# Altium footprint library CONECTER.PcbLib: 145 footprints (part 3 of 10)
Each footprint in its own frame and in the unit in brackets; x right, y up, seen from the top. Pads: shape width x height; smd on the part's side, far side on the other; paste and mask are expansions set on the pad; w line width, h text height; cw(c..) or ccw(c..) is an arc to the next point about the centre after c.
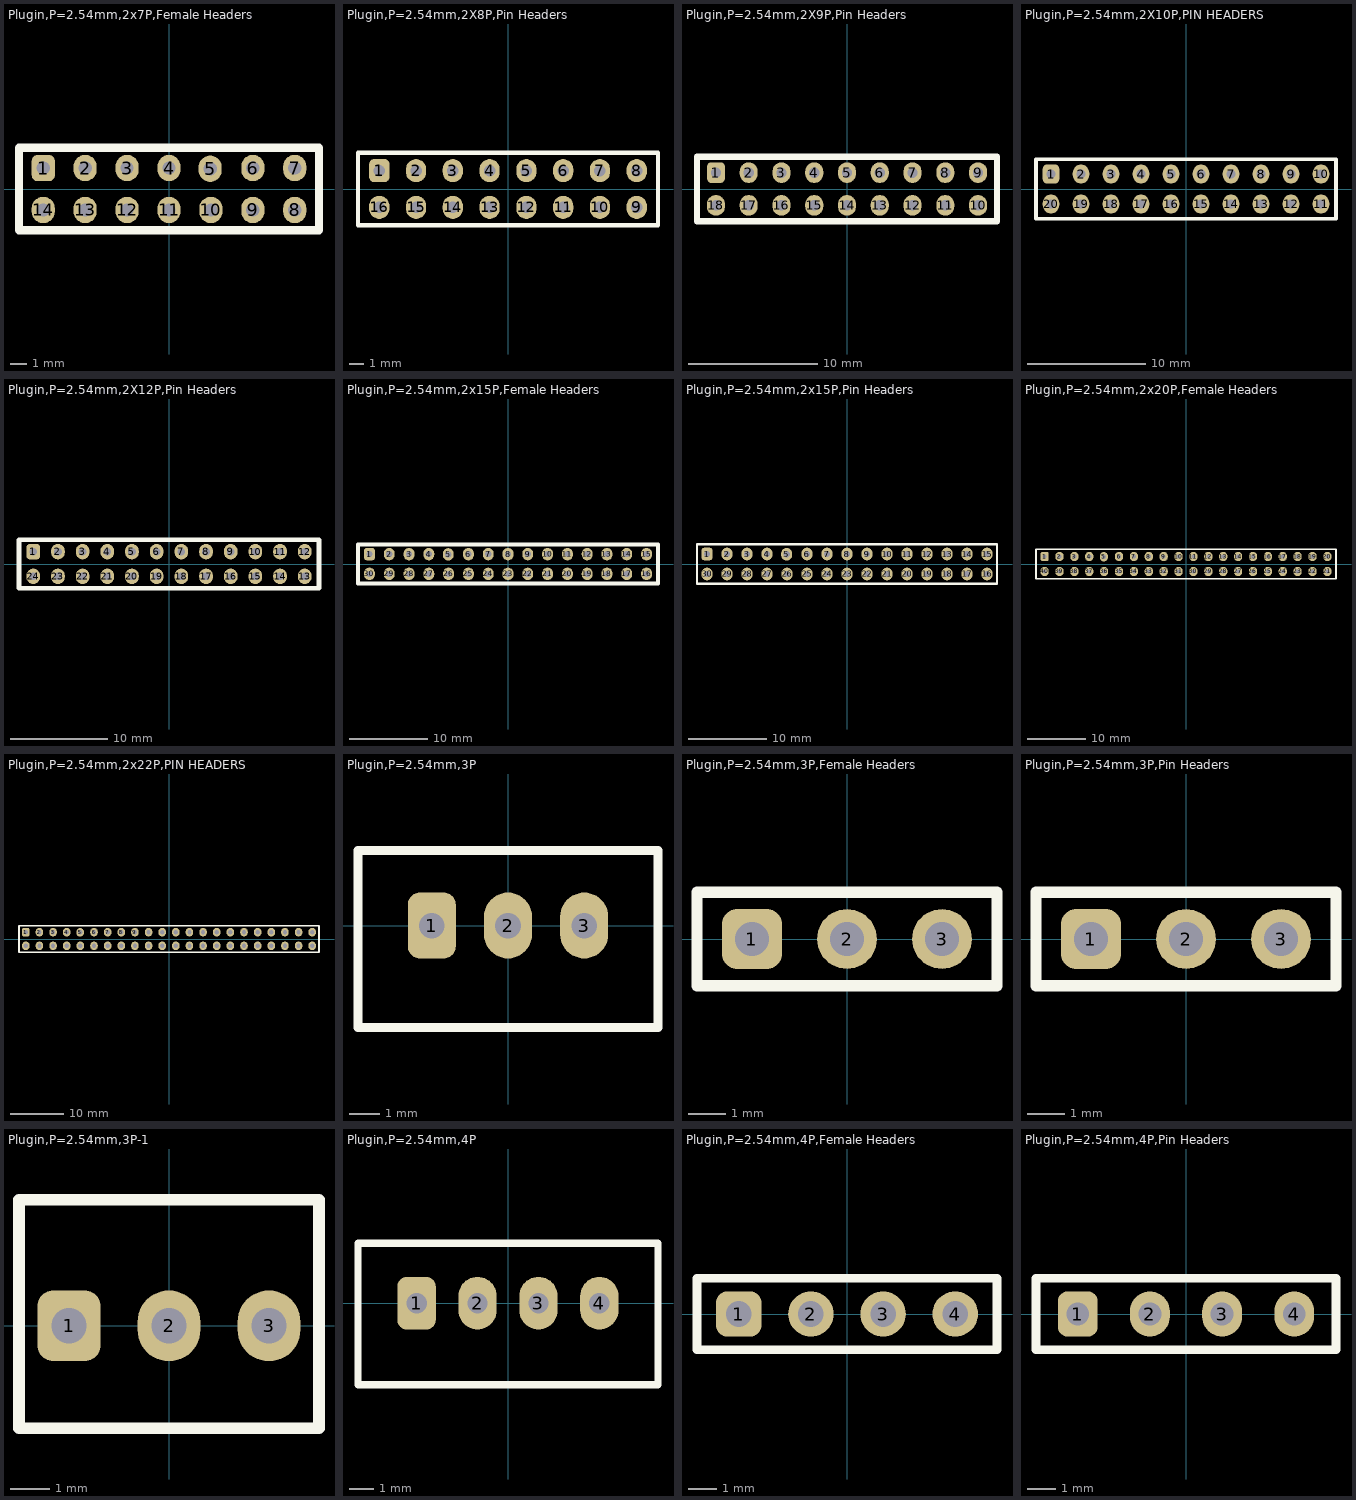
[diagram p2: the footprints below, top view; thin cyan lines are the x and y axes]

## Plugin,P=2.54mm,2x7P,Female Headers [mm]
pads (14):
  rrect50% 1.4x1.6 hole 0.8 mask+0.15: 1(-7.62,1.27)
  oval 1.4x1.6 hole 0.8 mask+0.15: 2(-5.08,1.27) 3(-2.54,1.27) 4(0,1.27) 5(2.494,1.231) 6(5.08,1.27) 7(7.62,1.27) 8(7.62,-1.27) 9(5.08,-1.27) 10(2.54,-1.27) 11(0,-1.27) 12(-2.54,-1.27) 13(-5.08,-1.27) 14(-7.62,-1.27)
Top Overlay:
  lines w0.5: -9.09,-2.5 -9.09,2.5 9.09,2.5 9.09,-2.5 -9.09,-2.5
3D body "14-Pin Header - Female - Double - 2.54mm.step": height 8.5, standoff -3, extent -9.14,-2.5 9.14,2.5

## Plugin,P=2.54mm,2X8P,Pin Headers [mm]
pads (16):
  rrect50% 1.4x1.6 hole 0.8 mask+0.15: 1(-8.89,1.27)
  oval 1.4x1.6 hole 0.8 mask+0.15: 2(-6.35,1.27) 3(-3.81,1.27) 4(-1.27,1.27) 5(1.27,1.27) 6(3.81,1.27) 7(6.35,1.27) 8(8.89,1.27) 9(8.89,-1.27) 10(6.35,-1.27) 11(3.81,-1.27) 12(1.27,-1.27) 13(-1.27,-1.27) 14(-3.81,-1.27) 15(-6.35,-1.27) 16(-8.89,-1.27)
Top Overlay:
  lines w0.3: -10.36,-2.5 10.36,-2.5 10.36,2.5 -10.36,2.5 -10.36,-2.5
3D body "Plugin,P=2.54mm,2X8P,Pin Headers.step": height 8.89, standoff -3.05, extent -10.16,-2.58 10.16,2.5

## Plugin,P=2.54mm,2X9P,Pin Headers [mm]
pads (18):
  rrect50% 1.4x1.6 hole 0.8 mask+0.15: 1(-10.16,1.27)
  oval 1.4x1.6 hole 0.8 mask+0.15: 2(-7.62,1.27) 3(-5.08,1.27) 4(-2.54,1.27) 5(0,1.27) 6(2.54,1.27) 7(5.08,1.27) 8(7.62,1.27) 9(10.16,1.27) 10(10.16,-1.27) 11(7.62,-1.27) 12(5.08,-1.27) 13(2.54,-1.27) 14(0,-1.27) 15(-2.54,-1.27) 16(-5.08,-1.27) 17(-7.62,-1.27) 18(-10.16,-1.27)
Top Overlay:
  lines w0.5: -11.63,-2.5 11.63,-2.5 11.63,2.5 -11.63,2.5 -11.63,-2.5
3D body "PH2.54-2x9P.stp": height 8.89, standoff -3.05, extent -11.43,-2.54 11.43,2.54

## Plugin,P=2.54mm,2X10P,PIN HEADERS [mm]
pads (20):
  rrect50% 1.4x1.6 hole 0.8 mask+0.15: 1(-11.43,1.27)
  oval 1.4x1.6 hole 0.8 mask+0.15: 2(-8.89,1.27) 3(-6.35,1.27) 4(-3.81,1.27) 5(-1.27,1.27) 6(1.27,1.27) 7(3.81,1.27) 8(6.35,1.27) 9(8.89,1.27) 10(11.43,1.27) 11(11.43,-1.27) 12(8.89,-1.27) 13(6.35,-1.27) 14(3.81,-1.27) 15(1.27,-1.27) 16(-1.27,-1.27) 17(-3.81,-1.27) 18(-6.35,-1.27) 19(-8.89,-1.27) 20(-11.43,-1.27)
Top Overlay:
  lines w0.3: -12.7,-2.5 12.7,-2.5 12.7,2.5 -12.7,2.5 -12.7,-2.5
3D body "PLD20.stp": height 8.54, standoff -3, extent -12.7,-2.54 12.7,2.54

## Plugin,P=2.54mm,2X12P,Pin Headers [mm]
pads (24):
  rrect50% 1.4x1.6 hole 0.8 mask+0.15: 1(-13.97,1.27)
  oval 1.4x1.6 hole 0.8 mask+0.15: 2(-11.43,1.27) 3(-8.89,1.27) 4(-6.35,1.27) 5(-3.81,1.27) 6(-1.27,1.27) 7(1.27,1.27) 8(3.81,1.27) 9(6.35,1.27) 10(8.89,1.27) 11(11.43,1.27) 12(13.97,1.27) 13(13.97,-1.27) 14(11.43,-1.27) 15(8.89,-1.27) 16(6.35,-1.27) 17(3.81,-1.27) 18(1.27,-1.27) 19(-1.27,-1.27) 20(-3.81,-1.27) 21(-6.35,-1.27) 22(-8.89,-1.27) 23(-11.43,-1.27) 24(-13.97,-1.27)
Top Overlay:
  lines w0.5: -15.44,-2.5 15.44,-2.5 15.44,2.5 -15.44,2.5 -15.44,-2.5
3D body "PH2.54-2x12P.stp": height 8.89, standoff -3.05, extent -15.24,-2.54 15.24,2.54

## Plugin,P=2.54mm,2x15P,Female Headers [mm]
pads (30):
  rrect50% 1.4x1.6 hole 0.8 mask+0.15: 1(-17.78,1.27)
  oval 1.4x1.6 hole 0.8 mask+0.15: 2(-15.24,1.27) 3(-12.7,1.27) 4(-10.16,1.27) 5(-7.666,1.231) 6(-5.08,1.27) 7(-2.54,1.27) 8(0,1.27) 9(2.54,1.27) 10(5.08,1.27) 11(7.62,1.27) 12(10.16,1.27) 13(12.7,1.27) 14(15.24,1.27) 15(17.78,1.27) 16(17.78,-1.27) 17(15.24,-1.27) 18(12.7,-1.27) 19(10.16,-1.27) 20(7.62,-1.27) 21(5.08,-1.27) 22(2.54,-1.27) 23(0,-1.27) 24(-2.54,-1.27) 25(-5.08,-1.27) 26(-7.62,-1.27) 27(-10.16,-1.27) 28(-12.7,-1.27) 29(-15.24,-1.27) 30(-17.78,-1.27)
Top Overlay:
  lines w0.5: -19.25,-2.5 -19.25,2.5 19.25,2.5 19.25,-2.5 -19.25,-2.5
3D body "30-Pin Header - Female - Double - 2.54mm.step": height 8.5, standoff -3, extent -19.3,-2.5 19.3,2.5

## Plugin,P=2.54mm,2x15P,Pin Headers [mm]
pads (30):
  rrect50% 1.4x1.6 hole 0.8 mask+0.15: 1(-17.78,1.27)
  oval 1.4x1.6 hole 0.8 mask+0.15: 2(-15.24,1.27) 3(-12.7,1.27) 4(-10.16,1.27) 5(-7.666,1.231) 6(-5.08,1.27) 7(-2.54,1.27) 8(0,1.27) 9(2.54,1.27) 10(5.08,1.27) 11(7.62,1.27) 12(10.16,1.27) 13(12.7,1.27) 14(15.24,1.27) 15(17.78,1.27) 16(17.78,-1.27) 17(15.24,-1.27) 18(12.7,-1.27) 19(10.16,-1.27) 20(7.62,-1.27) 21(5.08,-1.27) 22(2.54,-1.27) 23(0,-1.27) 24(-2.54,-1.27) 25(-5.08,-1.27) 26(-7.62,-1.27) 27(-10.16,-1.27) 28(-12.7,-1.27) 29(-15.24,-1.27) 30(-17.78,-1.27)
Top Overlay:
  lines w0.3: -19.05,-2.5 -19.05,2.5 19.05,2.5 19.05,-2.5 -19.05,-2.5
3D body "zl202-30_p2-54_l38-1_w5-08_h8-9.stp": height 8.89, standoff -3.05, extent -19.05,-2.54 19.05,2.54

## Plugin,P=2.54mm,2x20P,Female Headers [mm]
pads (40):
  rrect50% 1.4x1.6 hole 0.7 mask+0.15: 1(-24.13,1.27)
  oval 1.4x1.6 hole 0.7 mask+0.15: 2(-21.59,1.27) 3(-19.05,1.27) 4(-16.51,1.27) 5(-14.016,1.231) 6(-11.43,1.27) 7(-8.89,1.27) 8(-6.35,1.27) 9(-3.81,1.27) 10(-1.27,1.27) 11(1.27,1.27) 12(3.81,1.27) 13(6.35,1.27) 14(8.89,1.27) 15(11.43,1.27) 16(13.97,1.27) 17(16.51,1.27) 18(19.05,1.27) 19(21.59,1.27) 20(24.13,1.27) 21(24.13,-1.27) 22(21.59,-1.27) 23(19.05,-1.27) 24(16.51,-1.27) 25(13.97,-1.27) 26(11.43,-1.27) 27(8.89,-1.27) 28(6.35,-1.27) 29(3.81,-1.27) 30(1.27,-1.27) 31(-1.27,-1.27) 32(-3.81,-1.27) 33(-6.35,-1.27) 34(-8.89,-1.27) 35(-11.43,-1.27) 36(-13.97,-1.27) 37(-16.51,-1.27) 38(-19.05,-1.27) 39(-21.59,-1.27) 40(-24.13,-1.27)
Top Overlay:
  lines w0.3: -25.6,-2.5 25.6,-2.5 25.6,2.5 -25.6,2.5 -25.6,-2.5
3D body "40-Pin Header - Female - Double - 2.54mm.step": height 8.5, standoff -3, extent -25.65,-2.5 25.65,2.5

## Plugin,P=2.54mm,2x22P,PIN HEADERS [mm]
pads (44):
  rrect50% 1.4x1.6 hole 0.8 mask+0.15: 1(-26.67,1.27)
  oval 1.4x1.6 hole 0.8 mask+0.15: 2(-24.13,1.27) 3(-21.59,1.27) 4(-19.05,1.27) 5(-16.556,1.231) 6(-13.97,1.27) 7(-11.43,1.27) 8(-8.89,1.27) 9(-6.35,1.27) 10(-3.81,1.27) 11(-1.27,1.27) 12(1.27,1.27) 13(3.81,1.27) 14(6.35,1.27) 15(8.89,1.27) 16(11.43,1.27) 17(13.97,1.27) 18(16.51,1.27) 19(19.05,1.27) 20(21.59,1.27) 21(24.13,1.27) 22(26.67,1.27) 23(26.67,-1.27) 24(24.13,-1.27) 25(21.59,-1.27) 26(19.05,-1.27) 27(16.51,-1.27) 28(13.97,-1.27) 29(11.43,-1.27) 30(8.89,-1.27) 31(6.35,-1.27) 32(3.81,-1.27) 33(1.27,-1.27) 34(-1.27,-1.27) 35(-3.81,-1.27) 36(-6.35,-1.27) 37(-8.89,-1.27) 38(-11.43,-1.27) 39(-13.97,-1.27) 40(-16.51,-1.27) 41(-19.05,-1.27) 42(-21.59,-1.27) 43(-24.13,-1.27) 44(-26.67,-1.27)
Top Overlay:
  lines w0.3: -27.94,-2.5 -27.94,2.5 27.94,2.5 27.94,-2.5 -27.94,-2.5
3D body "PLD22.stp": height 8.54, standoff -3, extent -27.94,-2.54 0,2.54
3D body "PLD22.stp": height 8.54, standoff -3, extent 0,-2.54 27.94,2.54

## Plugin,P=2.54mm,3P [mm]
pads (3):
  rrect50% 1.6x2.2 hole 0.85 mask+0.1: 1(-2.54,0)
  oval 1.6x2.2 hole 0.85 mask+0.1: 2(0,0) 3(2.54,0)
Top Overlay:
  lines w0.3: -5,-3.4 -5,2.5 5,2.5 5,-3.4 -5,-3.4
3D body "JST 2.54X3P.step": height 7, standoff -3, extent -5.04,-3.3 5.04,2.4

## Plugin,P=2.54mm,3P,Female Headers [mm]
pads (3):
  rrect50% 1.6x1.6 hole 0.9: 1(-2.54,0)
  round 1.6 hole 0.9: 2(0,0) 3(2.54,0)
Top Overlay:
  lines w0.3: -4.01,-1.25 4.01,-1.25 4.01,1.25 -4.01,1.25 -4.01,-1.25
3D body "FH01-03SS.stp": height 8.5, standoff -3.2, extent -3.81,-1.25 3.81,1.25

## Plugin,P=2.54mm,3P,Pin Headers [mm]
pads (3):
  rrect50% 1.6x1.6 hole 0.9: 1(-2.54,0)
  round 1.6 hole 0.9: 2(0,0) 3(2.54,0)
Top Overlay:
  lines w0.3: -4.01,-1.25 4.01,-1.25 4.01,1.25 -4.01,1.25 -4.01,-1.25
3D body "Pin Header  2.54-03.stp": height 9.53, standoff -3.97, extent -3.81,-1.29 3.81,1.25

## Plugin,P=2.54mm,3P-1 [mm]
pads (3):
  rrect50% 1.6x1.8 hole 0.9: 1(-2.54,0)
  oval 1.6x1.8 hole 0.9: 2(0,0) 3(2.54,0)
Top Overlay:
  lines w0.3: -3.81,-2.6 -3.81,3.2 3.81,3.2 3.81,-2.6 -3.81,-2.6
3D body "640456-3.STEP": height 10.03, standoff -3.94, extent -3.953,-2.54 3.667,3.175

## Plugin,P=2.54mm,4P [mm]
pads (4):
  rrect50% 1.6x2.2 hole 0.85 mask+0.1: 1(-3.81,0)
  oval 1.6x2.2 hole 0.85 mask+0.1: 2(-1.27,0) 3(1.27,0) 4(3.81,0)
Top Overlay:
  lines w0.3: -6.25,-3.4 6.25,-3.4 6.25,2.5 -6.25,2.5 -6.25,-3.4
3D body "User Library-XH2_54-4P_step.STEP": height 7, standoff -1.8, extent -6.25,-3.4 6.25,2.4

## Plugin,P=2.54mm,4P,Female Headers [mm]
pads (4):
  rrect50% 1.6x1.6 hole 0.9: 1(-3.81,0)
  round 1.6 hole 0.9: 2(-1.27,0) 3(1.27,0) 4(3.81,0)
Top Overlay:
  lines w0.3: -5.28,-1.25 -5.28,1.25 5.28,1.25 5.28,-1.25 -5.28,-1.25
3D body "FH01-04SS.stp": height 8.5, standoff -3.2, extent -5.08,-1.25 5.08,1.25

## Plugin,P=2.54mm,4P,Pin Headers [mm]
pads (4):
  rrect50% 1.4x1.6 hole 0.8 mask+0.15: 1(-3.81,0)
  oval 1.4x1.6 hole 0.8 mask+0.15: 2(-1.27,0) 3(1.27,0) 4(3.81,0)
Top Overlay:
  lines w0.3: -5.28,-1.25 5.28,-1.25 5.28,1.25 -5.28,1.25 -5.28,-1.25
3D body "4-Pin Header - Male - 2.54mm.step": height 8.89, standoff -3.05, extent -5.08,-1.29 5.08,1.25